# Altium footprint library SamtecHeader.PcbLib: 1 footprints
Each footprint in its own frame and in the unit in brackets; x right, y up, seen from the top. Pads: shape width x height; smd on the part's side, far side on the other; paste and mask are expansions set on the pad; w line width, h text height; cw(c..) or ccw(c..) is an arc to the next point about the centre after c.
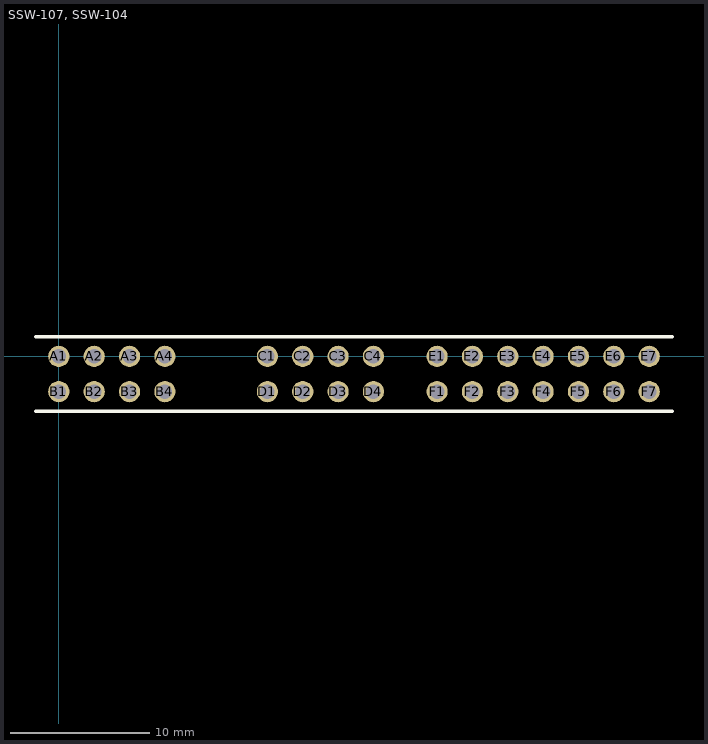
[diagram p0: the footprint, top view; thin cyan lines are the x and y axes]

## SSW-107, SSW-104 [mil]
pads (30):
  round 60 hole 40.94: A1(0,0) A2(100,0) A3(200,0) A4(300,0) B1(0,-100) B2(100,-100) B3(200,-100) B4(300,-100) C1(590,0) C2(690,0) C3(790,0) C4(890,0) D1(590,-100) D2(690,-100) D3(790,-100) D4(890,-100) E1(1070,0) E2(1170,0) E3(1270,0) E4(1370,0) E5(1470,0) E6(1570,0) E7(1670,0) F1(1070,-100) F2(1170,-100) F3(1270,-100) F4(1370,-100) F5(1470,-100) F6(1570,-100) F7(1670,-100)
Top Overlay:
  lines w10: -65,-155 1735,-155 ; -65,55 1735,55
3D body "SSW-104-01-F-D.stp": height 335, standoff -104, extent 530.01,-147.49 950.01,47.51
3D body "SSW-104-01-F-D.stp": height 335, standoff -104, extent -59.99,-147.5 360.01,47.51
3D body "SSW-107-01-F-D.stp": height 335, standoff -104, extent 1010.01,-147.5 1730.01,47.51